# EAGLE library part TC2030 (library tag-connect)
TC2030 pad no. Function STLink v3 CN1 pin no. Function 1 Reserved (1) 2 Reserved (1) 1 T_Vcc 3 T_Vcc (2) 2 T_SWDIO 4 T_JTMS/T_SWDIO 5 GND 4 T_SWCLK 6 T_JCLK / T_SWCLK 5 GND 7 GND 6 8 T_JTDO / T_SWO (3) 9 T_JRCLK (4) / NC (5) 10 T_JTDI / NC (5) 11 GNDDetect (6) 3 T_NRST 12 T_NRST 13 T_VCP_RX (7) 14 T_VCP_TX (2) (1) Do not connect to the target (2) Input for STLINK-V3SET (3) SWO is optional, required only for Serial Wire Viewer (SWV) trace (4) Optional loopback of T_JCLK on the target side, required if loopback is removed on the STLINK-V3SET side (5) NC means not required for the SWD connection (6) Tied to GND by STLINK-V3SET firmware; may be used by the target for detection of the tool (7) Output for STLINK-V3SET
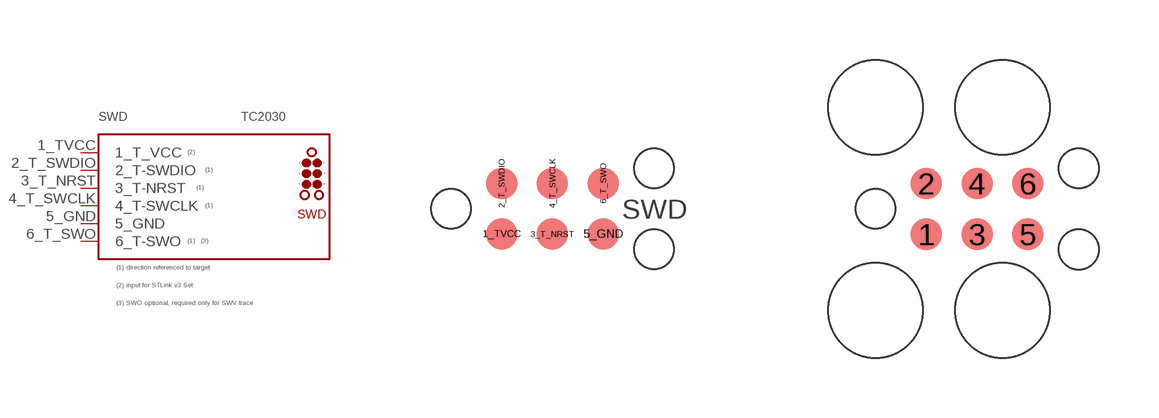
[diagram p0: symbol with the pads of TC2030-NL; footprints TC2030-NL, TC2030]

Designator prefix SWD

## TC2030  [TC2030-NL]
1_TVCC  1_T_VCC  pwr
2_T_SWDIO  2_T-SWDIO
3_T_NRST  3_T-NRST
4_T_SWCLK  4_T-SWCLK
5_GND  5_GND  pwr
6_T_SWO  6_T-SWO  in

## TC2030TC2030  [TC2030]
1  1_T_VCC  pwr
2  2_T-SWDIO
3  3_T-NRST
4  4_T-SWCLK
5  5_GND  pwr
6  6_T-SWO  in

## Footprint TC2030-NL (pad centres in mm)
smd 0.787 x 0.787: 1_TVCC 1.27,-0.635; 2_T_SWDIO 1.27,0.635; 3_T_NRST 2.54,-0.635; 4_T_SWCLK 2.54,0.635; 5_GND 3.81,-0.635; 6_T_SWO 3.81,0.635
hole 0.991 at 0,0
hole 0.991 at 5.08,-1.016
hole 0.991 at 5.08,1.016

## Footprint TC2030 (pad centres in mm)
smd 0.787 x 0.787: 1 1.27,-0.635; 2 1.27,0.635; 3 2.54,-0.635; 4 2.54,0.635; 5 3.81,-0.635; 6 3.81,0.635
hole 0.991 at 0,0
hole 0.991 at 5.08,-1.016
hole 0.991 at 5.08,1.016
hole 2.375 at 0,2.54
hole 2.375 at 0,-2.54
hole 2.375 at 3.175,-2.54
hole 2.375 at 3.175,2.54